# EAGLE library part BQ76PL455A-Q1 (library Pod4)
bq76PL455A-Q1 16-Cell EV/HEV Integrated Battery Monitor and Protector
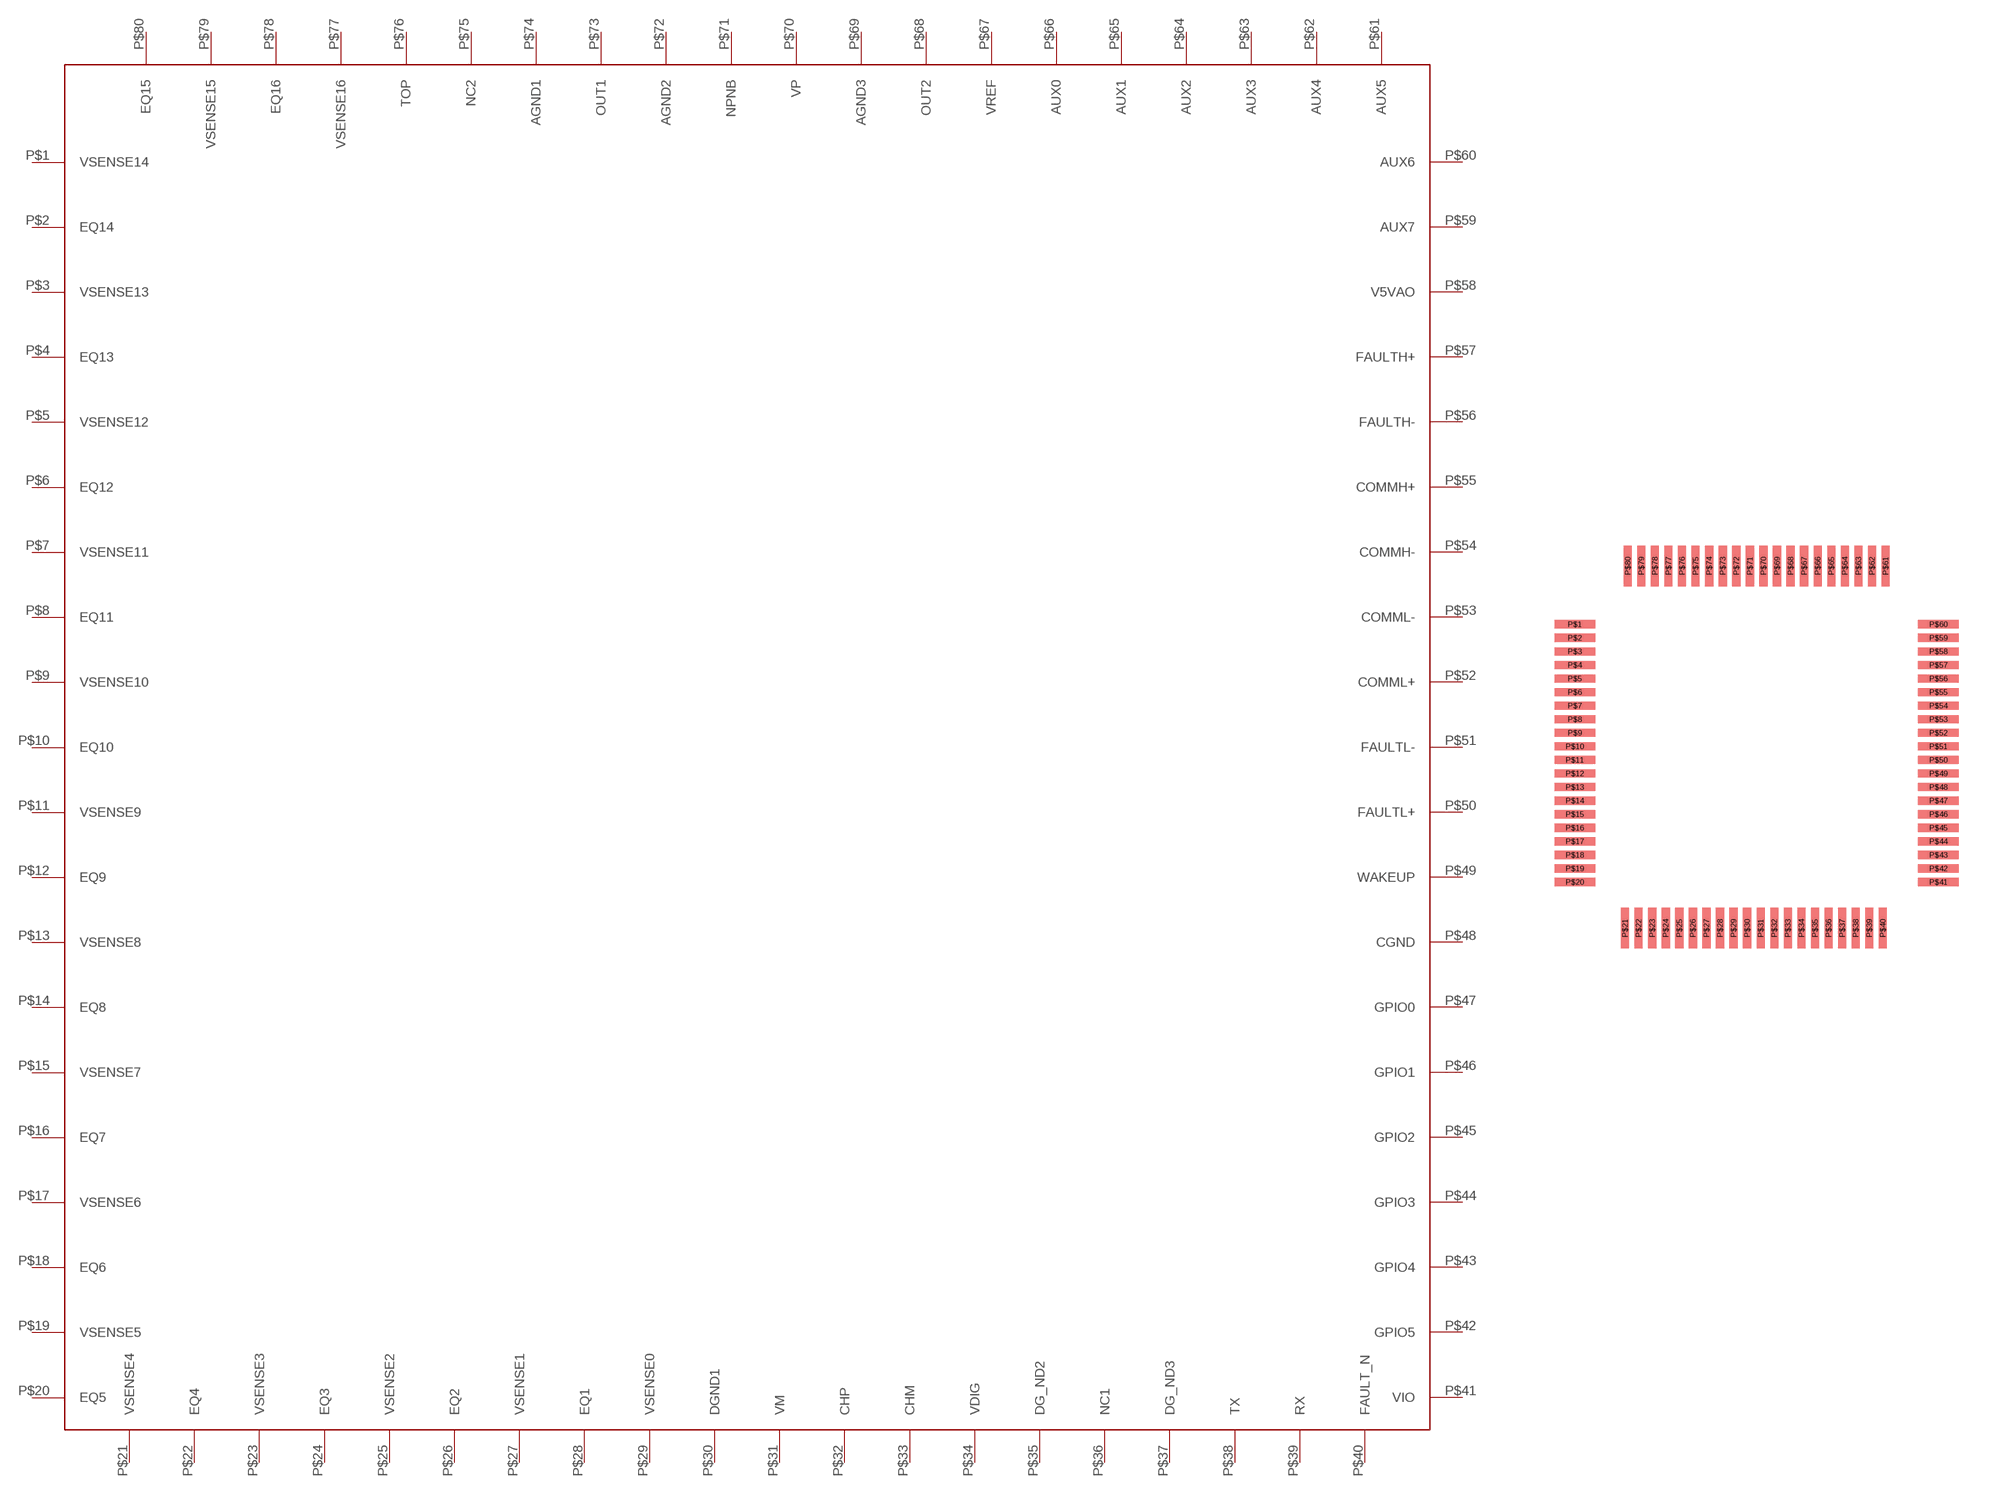
[diagram p2: symbol with the pads of BQ76PL455A-Q1; footprint BQ76PL455A-Q1]

Designator prefix -

## BQ76PL455A-Q1  [BQ76PL455A-Q1]
P$1  VSENSE14
P$2  EQ14
P$3  VSENSE13
P$4  EQ13
P$5  VSENSE12
P$6  EQ12
P$7  VSENSE11
P$8  EQ11
P$9  VSENSE10
P$10  EQ10
P$11  VSENSE9
P$12  EQ9
P$13  VSENSE8
P$14  EQ8
P$15  VSENSE7
P$16  EQ7
P$17  VSENSE6
P$18  EQ6
P$19  VSENSE5
P$20  EQ5
P$21  VSENSE4
P$22  EQ4
P$23  VSENSE3
P$24  EQ3
P$25  VSENSE2
P$26  EQ2
P$27  VSENSE1
P$28  EQ1
P$29  VSENSE0
P$30  DGND1
P$31  VM
P$32  CHP
P$33  CHM
P$34  VDIG
P$35  DG_ND2
P$36  NC1
P$37  DG_ND3
P$38  TX
P$39  RX
P$40  FAULT_N
P$41  VIO
P$42  GPIO5
P$43  GPIO4
P$44  GPIO3
P$45  GPIO2
P$46  GPIO1
P$47  GPIO0
P$48  CGND
P$49  WAKEUP
P$50  FAULTL+
P$51  FAULTL-
P$52  COMML+
P$53  COMML-
P$54  COMMH-
P$55  COMMH+
P$56  FAULTH-
P$57  FAULTH+
P$58  V5VAO
P$59  AUX7
P$60  AUX6
P$61  AUX5
P$62  AUX4
P$63  AUX3
P$64  AUX2
P$65  AUX1
P$66  AUX0
P$67  VREF
P$68  OUT2
P$69  AGND3
P$70  VP
P$71  NPNB
P$72  AGND2
P$73  OUT1
P$74  AGND1
P$75  NC2
P$76  TOP
P$77  VSENSE16
P$78  EQ16
P$79  VSENSE15
P$80  EQ15

## Footprint BQ76PL455A-Q1 (pad centres in mm)
smd 1.5 x 0.3: P$1 0,9.5; P$2 0,9; P$3 0,8.5; P$4 0,8; P$5 0,7.5; P$6 0,7; P$7 0,6.5; P$8 0,6; P$9 0,5.5; P$10 0,5; P$11 0,4.5; P$12 0,4; P$13 0,3.5; P$14 0,3; P$15 0,2.5; P$16 0,2; P$17 0,1.5; P$18 0,1; P$19 0,0.5; P$20 0,0; P$41 13.4,0; P$42 13.4,0.5; P$43 13.4,1; P$44 13.4,1.5; P$45 13.4,2; P$46 13.4,2.5; P$47 13.4,3; P$48 13.4,3.5; P$49 13.4,4; P$50 13.4,4.5; P$51 13.4,5; P$52 13.4,5.5; P$53 13.4,6; P$54 13.4,6.5; P$55 13.4,7; P$56 13.4,7.5; P$57 13.4,8; P$58 13.4,8.5; P$59 13.4,9; P$60 13.4,9.5
smd 0.3 x 1.5: P$21 1.85,-1.7; P$22 2.35,-1.7; P$23 2.85,-1.7; P$24 3.35,-1.7; P$25 3.85,-1.7; P$26 4.35,-1.7; P$27 4.85,-1.7; P$28 5.35,-1.7; P$29 5.85,-1.7; P$30 6.35,-1.7; P$31 6.85,-1.7; P$32 7.35,-1.7; P$33 7.85,-1.7; P$34 8.35,-1.7; P$35 8.85,-1.7; P$36 9.35,-1.7; P$37 9.85,-1.7; P$38 10.35,-1.7; P$39 10.85,-1.7; P$40 11.35,-1.7; P$61 11.45,11.65; P$62 10.95,11.65; P$63 10.45,11.65; P$64 9.95,11.65; P$65 9.45,11.65; P$66 8.95,11.65; P$67 8.45,11.65; P$68 7.95,11.65; P$69 7.45,11.65; P$70 6.95,11.65; P$71 6.45,11.65; P$72 5.95,11.65; P$73 5.45,11.65; P$74 4.95,11.65; P$75 4.45,11.65; P$76 3.95,11.65; P$77 3.45,11.65; P$78 2.95,11.65; P$79 2.45,11.65; P$80 1.95,11.65